# EAGLE library part TPS61232 (library ee_projects)
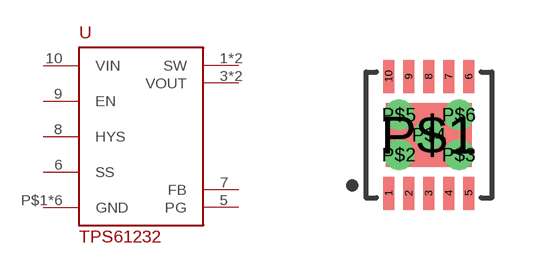
[diagram p17: symbol with the pads of PVSON_10_EP; footprint PVSON_10_EP]

Designator prefix -

## TPS61232  [PVSON_10_EP]
1  SW
2  SW
3  VOUT
4  VOUT
5  PG
6  SS
7  FB
8  HYS
9  EN
10  VIN
P$1  GND
P$2  GND
P$3  GND
P$4  GND
P$5  GND
P$6  GND

## Footprint PVSON_10_EP (pad centres in mm)
smd 0.28 x 0.825: 1 -1,-1.462; 2 -0.5,-1.462; 3 0,-1.462; 4 0.5,-1.462; 5 1,-1.462; 6 1,1.462; 7 0.5,1.462; 8 0,1.462; 9 -0.5,1.462; 10 -1,1.462
smd 2.15 x 1.6: P$1 0,0
drill 0.254 pad 0.61: P$2 -0.75,-0.5; P$3 0.75,-0.5; P$4 0,0; P$5 -0.75,0.5; P$6 0.75,0.5